# EAGLE library part TAS5710 (library Audio-Power-amlifier V.2.0)
Texas Instruments, The TAS5710 is a 20-W, efficient, digital audio power amplifier for driving stereo bridge-tied speakers. A 32-bit datapath eliminates the need for pre-scaling before processing and preserves signal integrity without sacrificing dynamic range. A digital audio processor with fully programmable digital filters allows designers to custom tune speakers for optimum sound in small enclosures. A programmable DRC can adjust power levels for a scaleable design while also enabling night-mode listening modes.
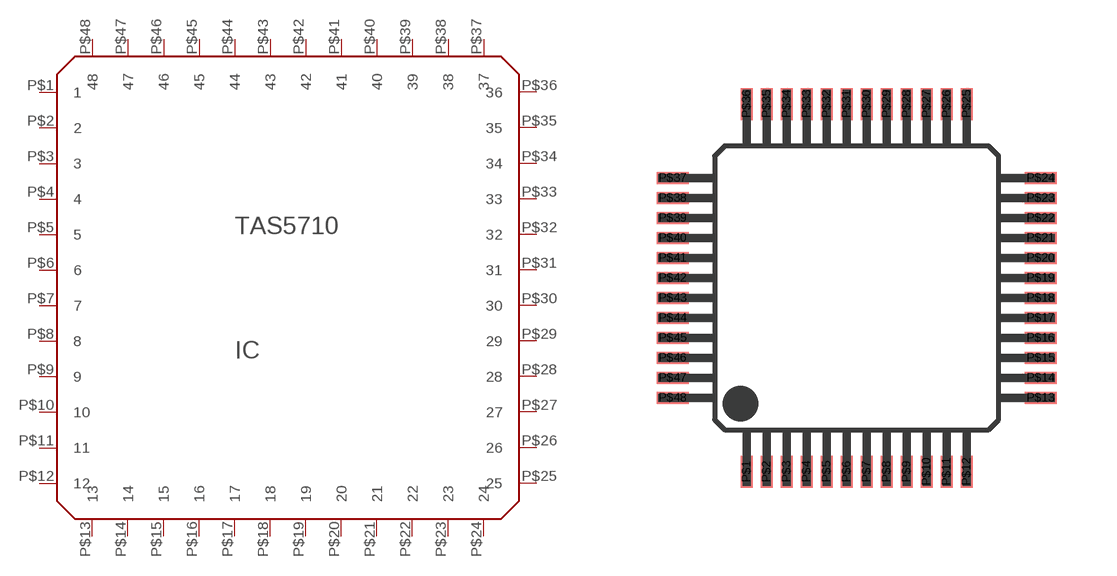
[diagram p70: symbol with the pads of HTQFP48; footprint HTQFP48]

Designator prefix IC

## TAS5710  [HTQFP48]
P$1  1  out
P$2  2  pwr
P$3  3  pwr
P$4  4  out
P$5  5  pwr
P$6  6  pwr
P$7  7  pwr
P$8  8  pwr
P$9  9  pwr
P$10  10
P$11  11
P$12  12
P$13  13  pwr
P$14  14
P$15  15
P$16  16
P$17  17
P$18  18
P$19  19
P$20  20
P$21  21
P$22  22
P$23  23
P$24  24
P$25  25
P$26  26
P$27  27  pwr
P$28  28  pwr
P$29  29  pwr
P$30  30  pwr
P$31  31  pwr
P$32  32  pwr
P$33  33  out
P$34  34  pwr
P$35  35  pwr
P$36  36  out
P$37  37  pwr
P$38  38
P$39  39
P$40  40
P$41  41
P$42  42  pwr
P$43  43  pwr
P$44  44
P$45  45
P$46  46
P$47  47
P$48  48  pwr

## Footprint HTQFP48 (pad centres in mm)
smd 0.3 x 0.8: P$1 -2.75,-4.6; P$2 -2.25,-4.6; P$3 -1.75,-4.6; P$4 -1.25,-4.6; P$5 -0.75,-4.6; P$6 -0.25,-4.6; P$7 0.25,-4.6; P$8 0.75,-4.6; P$9 1.25,-4.6; P$10 1.75,-4.6; P$11 2.25,-4.6; P$12 2.75,-4.6; P$25 2.75,4.6; P$26 2.25,4.6; P$27 1.75,4.6; P$28 1.25,4.6; P$29 0.75,4.6; P$30 0.25,4.6; P$31 -0.25,4.6; P$32 -0.75,4.6; P$33 -1.25,4.6; P$34 -1.75,4.6; P$35 -2.25,4.6; P$36 -2.75,4.6
smd 0.8 x 0.3: P$13 4.6,-2.75; P$14 4.6,-2.25; P$15 4.6,-1.75; P$16 4.6,-1.25; P$17 4.6,-0.75; P$18 4.6,-0.25; P$19 4.6,0.25; P$20 4.6,0.75; P$21 4.6,1.25; P$22 4.6,1.75; P$23 4.6,2.25; P$24 4.6,2.75; P$37 -4.6,2.75; P$38 -4.6,2.25; P$39 -4.6,1.75; P$40 -4.6,1.25; P$41 -4.6,0.75; P$42 -4.6,0.25; P$43 -4.6,-0.25; P$44 -4.6,-0.75; P$45 -4.6,-1.25; P$46 -4.6,-1.75; P$47 -4.6,-2.25; P$48 -4.6,-2.75